# EAGLE library part BOARD_1_23_CYPRESSFOOTPRINT_CYPRESS (library SchemaRobotV1.0)
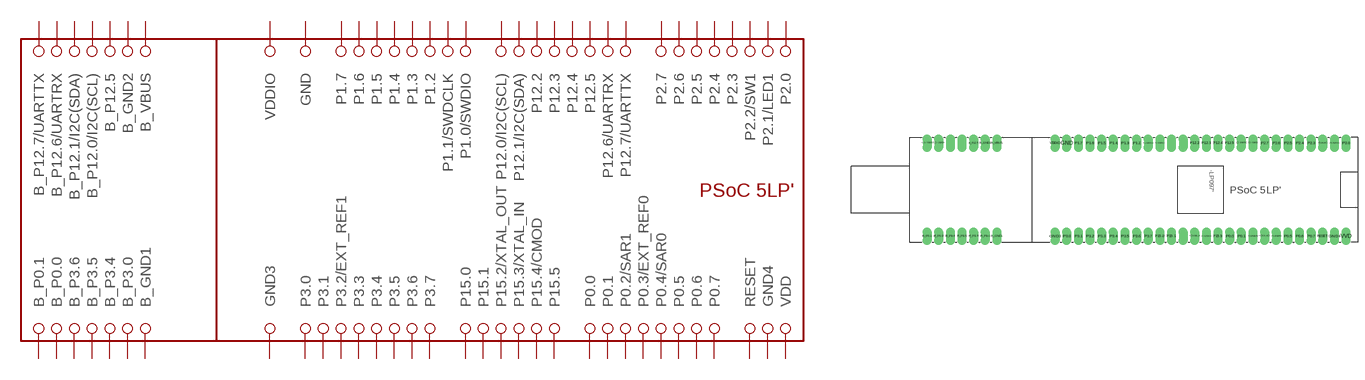
[diagram p0: symbol with the pads of BOARD_1_23_CYPRESSFOOTPRINT_CYPRESSFOOTPRINT; footprint BOARD_1_23_CYPRESSFOOTPRINT_CYPRESSFOOTPRINT]

Designator prefix DEVICE

## BOARD_1_23_CYPRESSFOOTPRINT_CYPRESS  [BOARD_1_23_CYPRESSFOOTPRINT_CYPRESSFOOTPRINT]
B_12.0/I2C(SCL)  B_P12.0/I2C(SCL)  pas
B_12.1/I2C(SDA)  B_P12.1/I2C(SDA)  pas
B_12.6/UARTRX  B_P12.6/UARTRX  pas
B_12.7/UARTTX  B_P12.7/UARTTX  pas
B_GND1  B_GND1  pas
B_GND2  B_GND2  pas
B_P0.0  B_P0.0  pas
B_P0.1  B_P0.1  pas
B_P3.0  B_P3.0  pas
B_P3.4  B_P3.4  pas
B_P3.5  B_P3.5  pas
B_P3.6  B_P3.6  pas
B_P12.5  B_P12.5  pas
B_VBUS  B_VBUS  pas
GND  GND  pas
GND3  GND3  pas
GND4  GND4  pas
P0.0  P0.0  pas
P0.1  P0.1  pas
P0.2/SAR1  P0.2/SAR1  pas
P0.3/EXT_REF0  P0.3/EXT_REF0  pas
P0.4/SAR0  P0.4/SAR0  pas
P0.5  P0.5  pas
P0.6  P0.6  pas
P0.7  P0.7  pas
P1.0/SWDIO  P1.0/SWDIO  pas
P1.1/SWDCLK  P1.1/SWDCLK  pas
P1.2  P1.2  pas
P1.3  P1.3  pas
P1.4  P1.4  pas
P1.5  P1.5  pas
P1.6  P1.6  pas
P1.7  P1.7  pas
P2.0  P2.0  pas
P2.1/LED1  P2.1/LED1  pas
P2.2/SW1  P2.2/SW1  pas
P2.3  P2.3  pas
P2.4  P2.4  pas
P2.5  P2.5  pas
P2.6  P2.6  pas
P2.7  P2.7  pas
P3.0  P3.0  pas
P3.1  P3.1  pas
P3.2  P3.2/EXT_REF1  pas
P3.3  P3.3  pas
P3.4  P3.4  pas
P3.5  P3.5  pas
P3.6  P3.6  pas
P3.7  P3.7  pas
P12.0/I2C(SCL)  P12.0/I2C(SCL)  pas
P12.1/I2C(SDA)  P12.1/I2C(SDA)  pas
P12.2  P12.2  pas
P12.3  P12.3  pas
P12.4  P12.4  pas
P12.5  P12.5  pas
P12.6/UARTRX  P12.6/UARTRX  pas
P12.7/UARTTX  P12.7/UARTTX  pas
P15.0  P15.0  pas
P15.1  P15.1  pas
P15.2/XTAL_OUT  P15.2/XTAL_OUT  pas
P15.3/XTAL_IN  P15.3/XTAL_IN  pas
P15.4/CMOD  P15.4/CMOD  pas
P15.5  P15.5  pas
RESET  RESET  pas
VDDIO  VDDIO  pas
VVD  VDD  pas

## Footprint BOARD_1_23_CYPRESSFOOTPRINT_CYPRESSFOOTPRINT (pad centres in mm)
Cypress CY8CKIT-059 PSoC PL5 Footprint
drill 1.2 pad 1.93 long: B_12.0/I2C(SCL) -36.83,10.16; B_12.1/I2C(SDA) -39.37,10.16; B_12.6/UARTRX -41.91,10.16; B_12.7/UARTTX -44.45,10.16; B_GND1 -29.21,-10.16; B_GND2 -31.75,10.16; B_P0.0 -41.91,-10.16; B_P0.1 -44.45,-10.16; B_P3.0 -31.75,-10.16; B_P3.4 -34.29,-10.16; B_P3.5 -36.83,-10.16; B_P3.6 -39.37,-10.16; B_P12.5 -34.29,10.16; B_VBUS -29.21,10.16; GND -13.97,10.16; GND3 -16.51,-10.16; GND4 44.45,-10.16; P0.0 21.59,-10.16; P0.1 24.13,-10.16; P0.2/SAR1 26.67,-10.16; P0.3/EXT_REF0 29.21,-10.16; P0.4/SAR0 31.75,-10.16; P0.5 34.29,-10.16; P0.6 36.83,-10.16; P0.7 39.37,-10.16; P1.0/SWDIO 6.35,10.16; P1.1/SWDCLK 3.81,10.16; P1.2 1.27,10.16; P1.3 -1.27,10.16; P1.4 -3.81,10.16; P1.5 -6.35,10.16; P1.6 -8.89,10.16; P1.7 -11.43,10.16; P2.0 46.99,10.16; P2.1/LED1 44.45,10.16; P2.2/SW1 41.91,10.16; P2.3 39.37,10.16; P2.4 36.83,10.16; P2.5 34.29,10.16; P2.6 31.75,10.16; P2.7 29.21,10.16; P3.0 -13.97,-10.16; P3.1 -11.43,-10.16; P3.2 -8.89,-10.16; P3.3 -6.35,-10.16; P3.4 -3.81,-10.16; P3.5 -1.27,-10.16; P3.6 1.27,-10.16; P3.7 3.81,-10.16; P12.0/I2C(SCL) 8.89,10.16; P12.1/I2C(SDA) 11.43,10.16; P12.2 13.97,10.16; P12.3 16.51,10.16; P12.4 19.05,10.16; P12.5 21.59,10.16; P12.6/UARTRX 24.13,10.16; P12.7/UARTTX 26.67,10.16; P15.0 6.35,-10.16; P15.1 8.89,-10.16; P15.2/XTAL_OUT 11.43,-10.16; P15.3/XTAL_IN 13.97,-10.16; P15.4/CMOD 16.51,-10.16; P15.5 19.05,-10.16; RESET 41.91,-10.16; VDDIO -16.51,10.16; VVD 46.99,-10.16